# Altium footprint library boxer_mechanical.PcbLib: 32 footprints (part 1 of 2)
Each footprint in its own frame and in the unit in brackets; x right, y up, seen from the top. Pads: shape width x height; smd on the part's side, far side on the other; paste and mask are expansions set on the pad; w line width, h text height; cw(c..) or ccw(c..) is an arc to the next point about the centre after c.
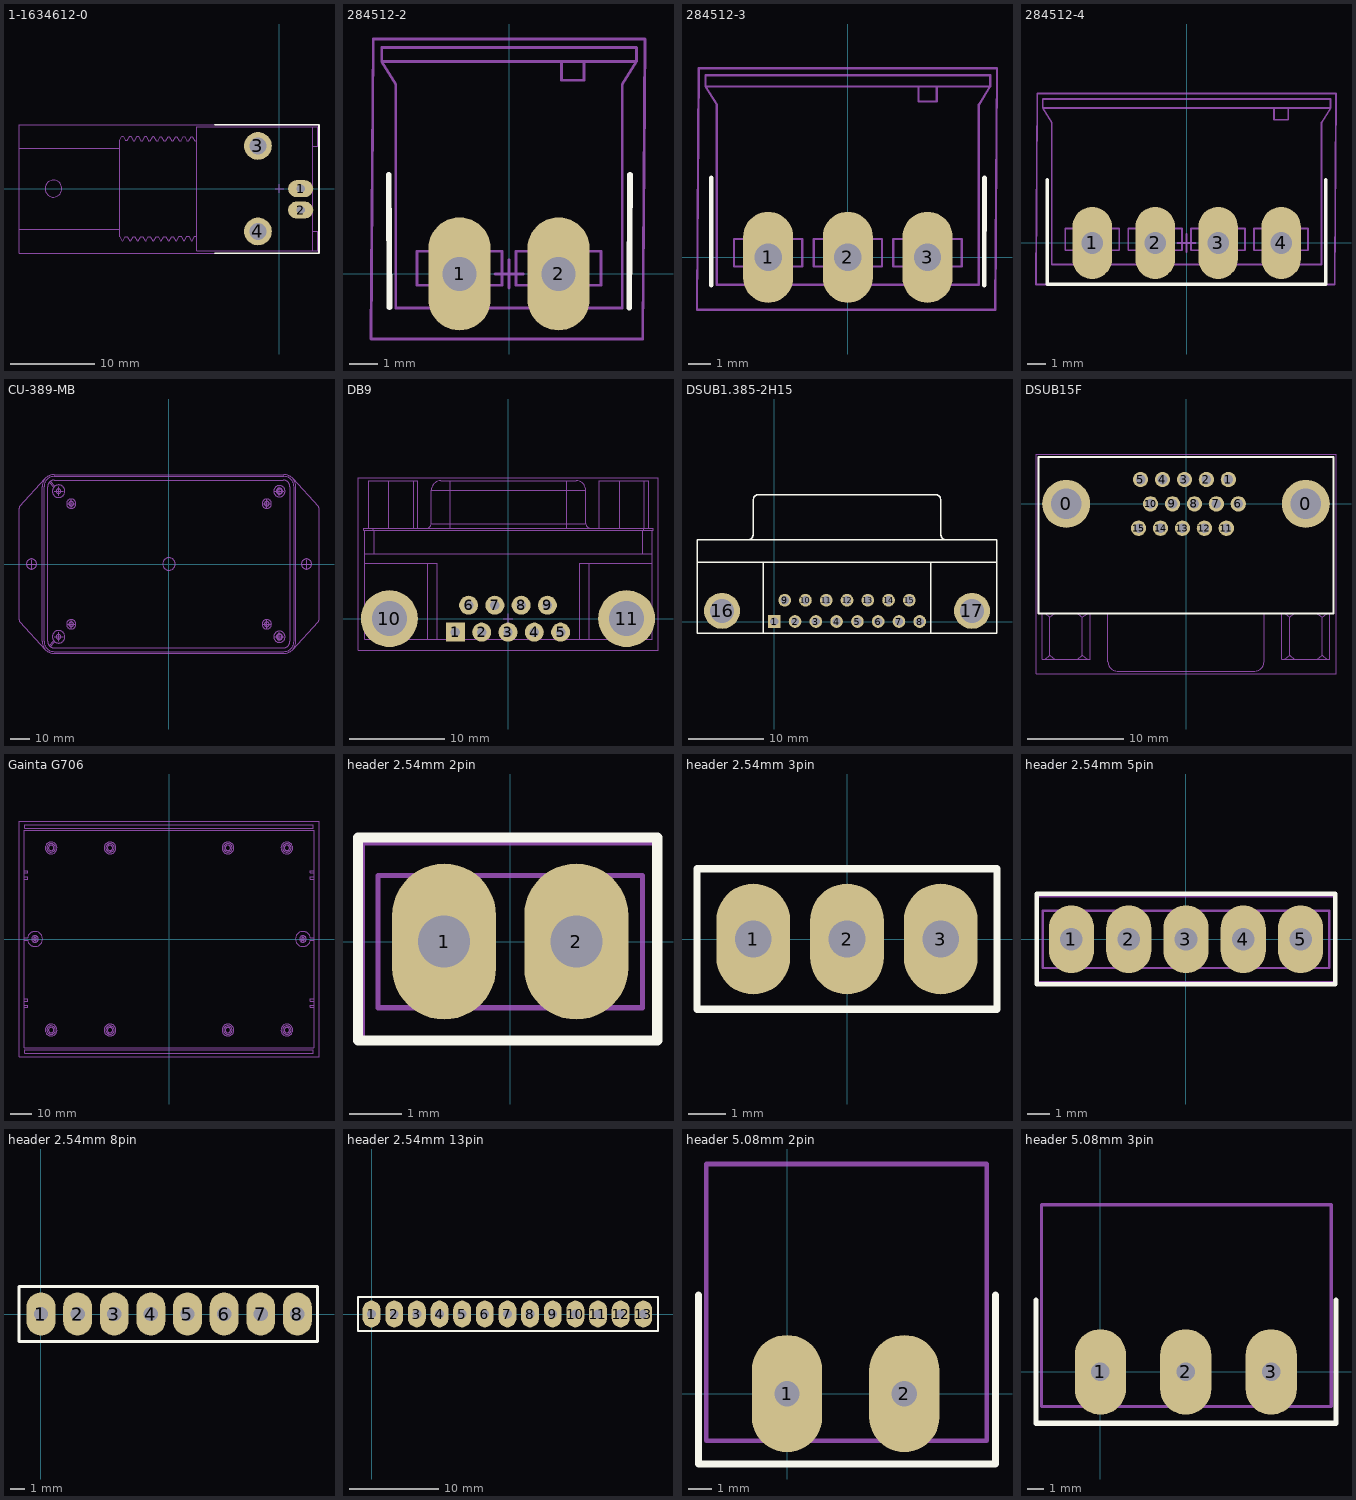
[diagram p0: the footprints below, top view; thin cyan lines are the x and y axes]

## 1-1634612-0 [mm] "Connector; BNC Elbow"
height 15.8
pads (4):
  oval 3x2 hole 1: 1(2.54,0) 2(2.54,-2.54)
  round 3.3 hole 2: 3(-2.54,5.08) 4(-2.54,-5.08)
Top Overlay:
  lines w0.2: -7.685,-7.69 4.715,-7.69 4.715,7.61 -7.685,7.61
Mechanical 13:
  circle w0.1: c-26.835,0 r1
  lines w0.1: -18.978,-4.8 -30.935,-4.8 -30.935,4.8 -18.978,4.8 ; -18.697,-6.213 -18.978,-5.727 -18.978,5.732 -18.697,6.218 ; -18.691,-6.218 -18.578,-6.218 ; -18.691,6.223 -18.578,6.223 ; -18.572,-6.213 -18.288,-5.722 -18.064,-5.722 -17.783,-6.208 ; -18.572,6.218 -18.288,5.726 -18.064,5.726 -17.783,6.212 ; -17.777,-6.213 -17.664,-6.213 ; -17.777,6.217 -17.664,6.217 ; -17.658,-6.208 -17.374,-5.716 -17.151,-5.716 -16.87,-6.202 ; -17.658,6.212 -17.374,5.721 -17.151,5.721 -16.87,6.207 ; -16.864,-6.207 -16.751,-6.207 ; -16.864,6.212 -16.751,6.212 ; -16.745,-6.202 -16.461,-5.711 -16.237,-5.711 -15.956,-6.197 ; -16.745,6.207 -16.461,5.715 -16.237,5.715 -15.956,6.201 ; -15.95,-6.202 -15.837,-6.202 ; -15.95,6.206 -15.837,6.206 ; -15.831,-6.197 -15.547,-5.705 -15.324,-5.705 -15.043,-6.191 ; -15.831,6.201 -15.547,5.71 -15.324,5.71 -15.043,6.196 ; -15.037,-6.196 -14.924,-6.196 ; -15.037,6.201 -14.924,6.201 ; -14.918,-6.191 -14.634,-5.7 -14.41,-5.7 -14.129,-6.186 ; -14.918,6.196 -14.634,5.704 -14.41,5.704 -14.129,6.19 ; -14.123,-6.191 -14.01,-6.191 ; -14.123,6.195 -14.01,6.195 ; -14.004,-6.186 -13.72,-5.694 -13.497,-5.694 -13.216,-6.18 ; -14.004,6.19 -13.72,5.699 -13.497,5.699 -13.216,6.185 ; -13.21,-6.185 -13.097,-6.185 ; -13.21,6.19 -13.097,6.19 ; -13.091,-6.18 -12.807,-5.689 -12.583,-5.689 -12.302,-6.175 ; -13.091,6.185 -12.807,5.693 -12.583,5.693 -12.302,6.179 ; -12.296,-6.18 -12.183,-6.18 ; -12.296,6.184 -12.183,6.184 ; -12.177,-6.175 -11.893,-5.683 -11.67,-5.683 -11.389,-6.169 ; -12.177,6.179 -11.893,5.688 -11.67,5.688 -11.389,6.174 ; -11.383,-6.174 -11.27,-6.174 ; -11.383,6.179 -11.27,6.179 ; -11.264,-6.169 -10.98,-5.678 -10.756,-5.678 -10.475,-6.164 ; -11.264,6.174 -10.98,5.683 -10.756,5.683 -10.475,6.168 ; -10.469,-6.169 -10.356,-6.169 ; -10.469,6.174 -10.356,6.174 ; -10.35,-6.164 -10.066,-5.672 -9.835,-5.672 ; -10.35,6.168 -10.066,5.677 -9.835,5.677 ; 3.965,-7.35 3.965,7.35 ; 3.965,-5.05 4.565,-5.05 4.565,-7.35 -9.835,-7.35 -9.835,7.35 4.565,7.35 4.565,5.05 3.965,5.05
  text ".Designator" at 0.8,7.625 h0.5
  text ".Value" at -1,-0.175 h0.5
Mechanical 15:
  lines w0.1: -0.5,0 0.5,0 ; 0,-0.5 0,0.5 ; -30.935,-7.665 -30.935,7.61 4.665,7.61 4.665,-7.665 -30.935,-7.665
3D body "c-1-1634612-0-d-3d.stp": height 15.75, standoff -4.45, extent -30.935,-7.35 4.565,7.35

## 284512-2 [mm] "Terminal Block 3.5mm 2-pin ,11A, 300V"
height 7.3
pads (2):
  oval 2.2x4 hole 1.2: 1(-1.75,0) 2(1.75,0)
Top Overlay:
  lines w0.2: -4.25,3.5 -4.225,-1.175 ; 4.25,-1.2 4.275,3.5
Mechanical 13:
  lines w0.1: -2.7,-1.2 -2.7,-0.4 -3.25,-0.4 -3.25,0.8 -0.25,0.8 -0.25,-0.4 -0.8,-0.4 -0.8,-1.2 ; 1,-1.2 1,-0.4 0.25,-0.4 0.25,0.8 3.25,0.8 3.25,-0.4 2.5,-0.4 2.5,-1.2 ; 1.85,7.5 1.85,6.844 2.65,6.844 2.65,7.5 2.644,7.5 ; -4.5,7.5 -4.5,8 4.5,8 4.5,7.5 ; -4.5,7.5 4.5,7.5 ; -4.5,7.5 -4,6.7 -4,-1.2 4,-1.2 4,6.7 4.5,7.5 ; -2.15,-0.4 -1.35,-0.4 ; -2.15,-0.4 -1.35,-0.4 ; -2.15,-0.4 -2.15,0.4 -1.35,0.4 -1.35,-0.4 ; 1.35,-0.4 1.35,0.4 2.15,0.4 2.15,-0.4 1.35,-0.4
  text ".Designator" at -4.369,8.368 h0.5
  text ".Value" at -0.85,1.275 h0.5
Mechanical 15:
  lines w0.1: -0.5,0 0.5,0 ; 0,-0.5 0,0.5 ; -4.873,-2.3 4.727,-2.3 4.8,8.3 -4.8,8.3 -4.873,-2.3
3D body "c-284512-2-e1-3d.stp": height 7.25, standoff -3.4, extent -4.5,-1.2 4.5,8

## 284512-3 [mm] "Terminal Block 3.5mm 3-pin ,11A, 300V"
height 7.3
pads (3):
  oval 2.2x4 hole 1.2: 1(-3.5,0) 2(0,0) 3(3.5,0)
Top Overlay:
  lines w0.2: -6,-1.225 -6,3.5 ; 6,-1.225 6,3.5
Mechanical 13:
  lines w0.1: -4.45,-1.2 -4.45,-0.4 -5,-0.4 -5,0.8 -2,0.8 -2,-0.4 -2.55,-0.4 -2.55,-1.2 ; -0.75,-1.2 -0.75,-0.4 -1.5,-0.4 -1.5,0.8 1.5,0.8 1.5,-0.4 0.75,-0.4 0.75,-1.2 ; 2.75,-1.2 2.75,-0.4 2,-0.4 2,0.8 5,0.8 5,-0.4 4.25,-0.4 4.25,-1.2 ; 3.1,7.5 3.1,6.844 3.9,6.844 3.9,7.5 3.894,7.5 ; -6.25,7.5 -5.75,6.7 -5.75,-1.2 5.75,-1.2 5.75,6.7 6.25,7.5 ; -6.25,7.5 6.25,7.5 ; -6.25,7.5 -6.25,8 6.25,8 6.25,7.5 ; -3.9,-0.4 -3.9,0.4 -3.1,0.4 -3.1,-0.4 ; -3.9,-0.4 -3.1,-0.4 ; -3.9,-0.4 -3.1,-0.4 ; -0.4,-0.4 0.4,-0.4 0.4,0.4 -0.4,0.4 -0.4,-0.4 ; 3.1,-0.4 3.1,0.4 3.9,0.4 3.9,-0.4 3.1,-0.4
  text ".Value" at -0.975,1.275 h0.5
  text ".Designator" at -6.244,8.343 h0.5
Mechanical 15:
  lines w0.1: -0.5,0 0.5,0 ; 0,-0.5 0,0.5 ; -6.623,-2.3 -6.55,8.3 6.55,8.3 6.477,-2.3 -6.623,-2.3
3D body "15h7375_284512-3.stp": height 7.25, standoff -3.4, extent -6.25,-1.2 6.25,8

## 284512-4 [mm] "Terminal Block 3.5mm 4-pin ,11A, 300V"
height 7.3
pads (4):
  oval 2.2x4 hole 1.2: 1(-5.25,0) 2(-1.75,0) 3(1.75,0) 4(5.25,0)
Top Overlay:
  lines w0.2: -7.75,3.5 -7.75,-2.3 7.725,-2.3 7.725,3.5
Mechanical 13:
  lines w0.1: -6.2,-1.2 -6.2,-0.4 -6.75,-0.4 -6.75,0.8 -3.75,0.8 -3.75,-0.4 -4.3,-0.4 -4.3,-1.2 ; -2.5,-1.2 -2.5,-0.4 -3.25,-0.4 -3.25,0.8 -0.25,0.8 -0.25,-0.4 -1,-0.4 -1,-1.2 ; 1,-1.2 1,-0.4 0.25,-0.4 0.25,0.8 3.25,0.8 3.25,-0.4 2.5,-0.4 2.5,-1.2 ; 4.5,-1.2 4.5,-0.4 3.75,-0.4 3.75,0.8 6.75,0.8 6.75,-0.4 6,-0.4 6,-1.2 ; 4.85,7.5 4.85,6.844 5.65,6.844 5.65,7.5 5.644,7.5 ; -8,7.5 -8,8 8,8 8,7.5 ; -8,7.5 8,7.5 ; -8,7.5 -7.5,6.7 -7.5,-1.2 7.5,-1.2 7.5,6.7 8,7.5 ; -5.65,-0.4 -4.85,-0.4 ; -5.65,-0.4 -4.85,-0.4 ; -5.65,-0.4 -5.65,0.4 -4.85,0.4 -4.85,-0.4 ; -2.15,-0.4 -2.15,0.4 -1.35,0.4 -1.35,-0.4 -2.15,-0.4 ; 1.35,-0.4 2.15,-0.4 2.15,0.4 1.35,0.4 1.35,-0.4 ; 4.85,-0.4 4.85,0.4 5.65,0.4 5.65,-0.4 4.85,-0.4
  text ".Value" at -0.95,1.525 h0.5
  text ".Designator" at -7.969,8.318 h0.5
Mechanical 15:
  lines w0.1: -0.5,0 0.5,0 ; 0,-0.5 0,0.5 ; -8.373,-2.3 8.23,-2.3 8.302,8.3 -8.3,8.3 -8.373,-2.3
3D body "12h8906_284512-4.stp": height 7.25, standoff -3.4, extent -8,-1.2 8,8

## CU-389-MB [mm]
height 40
Mechanical 2:
  circle w0.1: c49.693,-30.632 r2.388
  circle w0.1: c49.693,-30.632 r1.194
  circle w0.1: c49.693,30.632 r1.194
  circle w0.1: c49.693,30.632 r2.375
  circle w0.1: c69.861,0 r2.578
  circle w0.1: c-69.839,0 r2.578
  circle w0.1: c-56.084,-36.982 r1.194
  circle w0.1: c-56.084,36.982 r1.194
  circle w0.1: c-49.671,-30.632 r1.194
  circle w0.1: c-49.671,-30.632 r2.388
  circle w0.1: c56.107,-36.982 r1.587
  circle w0.1: c-56.084,36.982 r3.175
  circle w0.1: c-49.671,30.632 r2.388
  circle w0.1: c-49.671,30.632 r1.194
  circle w0.1: c0.011,0 r3.175
  circle w0.1: c56.107,36.982 r1.587
  circle w0.1: c56.107,36.982 r2.857
  circle w0.1: c-56.084,-36.982 r3.175
  circle w0.1: c56.107,-36.982 r2.857
  lines w0.1: -62.773,-43.437 -75.763,-29.452 cw(c-74.602,-28.37) -76.189,-28.37 -76.189,28.37 cw(c-74.602,28.37) -75.763,29.452 -62.773,43.437 ; -60.933,-41.41 -58.563,-38.967 ; -60.933,41.41 -58.563,38.967 ; -60.364,-41.963 -57.993,-39.52 ; -60.364,41.963 -57.993,39.52 ; 62.795,-43.437 75.785,-29.452 ccw(c74.623,-28.37) 76.211,-28.37 76.211,28.37 ccw(c74.623,28.37) 75.785,29.452 62.795,43.437 ; -64.403,-39.297 ccw(c-58.333,-39.297) -58.333,-45.367 58.355,-45.367 ccw(c58.355,-39.297) 64.425,-39.297 64.425,39.297 ccw(c58.355,39.297) 58.355,45.367 -58.333,45.367 ccw(c-58.333,39.297) -64.403,39.297 -64.403,-39.297 ; -63.489,-39.297 ccw(c-58.333,-39.297) -58.333,-44.453 58.355,-44.453 ccw(c58.355,-39.297) 63.511,-39.297 63.511,39.297 ccw(c58.355,39.297) 58.355,44.453 -58.333,44.453 ccw(c-58.333,39.297) -63.489,39.297 -63.489,-39.297 ; -61.66,-39.297 ccw(c-58.333,-39.297) -58.333,-42.624 58.101,-42.624 ccw(c58.101,-39.297) 61.428,-39.297 61.428,39.297 ccw(c58.101,39.297) 58.101,42.624 -58.333,42.624 ccw(c-58.333,39.297) -61.66,39.297 -61.66,-39.297
Mechanical 3:
Mechanical 8:
  lines w0.1: -72.125,0 -67.553,0 ; -69.839,-2.286 -69.839,2.286 ; -58.37,-36.982 -53.798,-36.982 ; -58.37,36.982 -53.798,36.982 ; -56.084,-39.268 -56.084,-34.696 ; -56.084,34.696 -56.084,39.268 ; -51.957,-30.632 -47.385,-30.632 ; -51.957,30.632 -47.385,30.632 ; -49.671,-32.918 -49.671,-28.346 ; -49.671,28.346 -49.671,32.918 ; 47.407,-30.632 51.979,-30.632 ; 47.407,30.632 51.979,30.632 ; 49.693,-32.918 49.693,-28.346 ; 49.693,28.346 49.693,32.918 ; 53.82,-36.982 58.392,-36.982 ; 53.82,36.982 58.392,36.982 ; 56.106,-39.268 56.106,-34.696 ; 56.106,34.696 56.106,39.268 ; 67.575,0 72.147,0 ; 69.861,-2.286 69.861,2.286
Mechanical 13:
  circle w0.1: c56.106,-36.982 r1.194
  circle w0.1: c56.106,36.982 r1.194
3D body "hb389mb.step": height 30.08, standoff -9.97, extent -76.266,-45.305 76.286,45.367

## DB9 [mm]
height 12.75
pads (11):
  rect 2x2 hole 1: 1(-5.54,-1.42)
  round 2 hole 1: 2(-2.77,-1.42) 3(0,-1.42) 4(2.77,-1.42) 5(5.54,-1.42) 6(-4.155,1.42) 7(-1.385,1.42) 8(1.385,1.42) 9(4.155,1.42)
  round 6 hole 3.7: 10(-12.495,0) 11(12.495,0)
Mechanical 13:
  lines w0.1: -15.09,5.82 -7.44,5.82 -7.44,-2.18 ; -15.09,6.82 -14.09,6.82 ; -15.09,9.32 -15.09,-2.18 15.21,-2.18 15.21,9.32 ; -14.684,9.52 -14.684,14.52 -12.543,14.52 ; -14.09,9.32 -14.09,6.82 ; -12.543,9.52 -12.543,14.52 ; -9.949,9.52 -9.949,14.52 ; -9.496,9.52 -9.496,14.52 -9.949,14.52 ; -8.59,9.52 ccw(c-8.59,10.02) -8.09,10.02 ; -8.44,-2.18 -8.44,5.82 ; -6.09,9.52 -6.09,10.02 ; 6.21,9.52 6.21,10.02 ; 7.56,-2.18 7.56,5.82 15.21,5.82 ; 8.56,-2.18 8.56,5.82 ; 8.71,9.52 cw(c8.71,10.02) 8.21,10.02 ; 9.616,9.52 9.616,14.52 11.757,14.52 ; 11.757,9.52 11.757,14.52 ; 14.21,9.32 14.21,6.82 ; 14.351,9.52 14.351,14.52 ; 14.804,9.52 14.804,14.52 14.351,14.52 ; 15.21,6.82 14.21,6.82 ; -14.19,9.32 -15.19,9.32 -15.19,9.52 -14.19,9.52 ; -14.19,9.32 14.31,9.32 ; -14.19,9.32 -14.19,9.52 ; -14.19,9.52 14.31,9.52 ; -14.09,6.82 14.21,6.82 ; -12.543,14.52 -9.949,14.52 ; -8.09,10.02 -8.09,13.52 ; -8.09,10.02 -6.09,10.02 ; -8.09,13.52 cw(c-7.09,13.52) -7.09,14.52 -6.09,14.52 ; -8.09,13.52 -6.09,13.52 ; -6.09,10.02 6.21,10.02 ; -6.09,10.02 -6.09,13.52 ; -6.09,13.52 -6.09,14.52 ; -6.09,13.52 6.21,13.52 ; -6.09,14.52 6.21,14.52 ; 6.21,10.02 8.21,10.02 ; 6.21,10.02 6.21,13.52 ; 6.21,13.52 8.21,13.52 ; 6.21,13.52 6.21,14.52 ; 6.21,14.52 7.21,14.52 cw(c7.21,13.52) 8.21,13.52 ; 8.21,10.02 8.21,13.52 ; 11.757,14.52 14.351,14.52 ; 14.31,9.32 15.31,9.32 15.31,9.52 14.31,9.52 ; 14.31,9.32 14.31,9.52
  text ".Value" at -0.95,7.75 h0.5
  text ".Designator" at -15.044,14.968 h0.5
Mechanical 15:
  lines w0.1: -0.5,0 0.5,0 ; 0,-0.5 0,0.5 ; -15.8,-3.3 15.8,-3.3 15.8,14.82 -15.8,14.82 -15.8,-3.3
3D body "User Library-DB-9F.step": height 12.45, standoff -3.95, extent -15.19,-2.18 15.31,14.52

## DSUB1.385-2H15 [mm] "Connector; D Subminiature; 15 Position; Right Angle; Pitch 1.385 mm"
height 12.75
pads (17):
  rect 1.69x1.69 hole 1.09: 1(0,0)
  round 1.69 hole 1.09: 2(2.77,0) 3(5.54,0) 4(8.31,0) 5(11.08,0) 6(13.85,0) 7(16.62,0) 8(19.39,0) 9(1.385,2.84) 10(4.155,2.84) 11(6.925,2.84) 12(9.695,2.84) 13(12.465,2.84) 14(15.235,2.84) 15(18.005,2.84)
  round 4.8 hole 3.18: 16(-6.965,1.42) 17(26.355,1.42)
Top Overlay:
  lines w0.2: -10.305,7.92 29.695,7.92 ; -3.5,10.925 ccw(c-3.5,11.62) -2.805,11.62 -2.805,16.22 ; -2.8,16.225 cw(c-2.105,16.225) -2.105,16.92 21.495,16.92 cw(c21.495,16.225) 22.19,16.225 ; -1.445,-1.58 -1.445,7.92 ; 20.835,-1.58 20.835,7.92 ; 22.195,16.22 22.195,11.62 ccw(c22.89,11.62) 22.89,10.925 ; -10.305,-1.58 -10.305,10.92 29.695,10.92 29.695,-1.58 -10.305,-1.58
3D body: height 9, standoff 8, extent 14.224,15.002 15.222,17.002
3D body: height 9, standoff 8, extent 16.256,15.002 17.254,17.002
3D body: height 7, standoff 6, extent 15.24,15.002 16.238,17.002
3D body: height 9, standoff 8, extent 10.16,15.002 11.158,17.002
3D body: height 9, standoff 8, extent 12.192,15.002 13.19,17.002
3D body: height 7, standoff 6, extent 11.176,15.002 12.174,17.002
3D body: height 7, standoff 6, extent 13.208,15.002 14.206,17.002
3D body: height 9, standoff 8, extent 6.096,15.002 7.094,17.002
3D body: height 9, standoff 8, extent 8.128,15.002 9.126,17.002
3D body: height 7, standoff 6, extent 7.112,15.002 8.11,17.002
3D body: height 7, standoff 6, extent 9.144,15.002 10.142,17.002
3D body: height 7, standoff 6, extent 5.08,15.002 6.078,17.002
3D body: height 7, standoff 6, extent 3.048,15.002 4.046,17.002
3D body: height 9, standoff 8, extent 4.064,15.002 5.062,17.002
3D body: height 9, standoff 8, extent 2.032,15.002 3.03,17.002
3D body: height 10, standoff 5, extent -2.667,7.049 21.971,16.383
3D body: height 15, standoff 0, extent -10.16,-1.524 29.591,10.795

## DSUB15F [mm]
height 12.5
pads (17):
  round 5 hole 3.2: 0(-12.5,0) 0(12.5,0)
  round 1.6 hole 1: 1(4.42,2.54) 2(2.13,2.54) 3(-0.16,2.54) 4(-2.45,2.54) 5(-4.74,2.54) 6(5.46,0) 7(3.17,0) 8(0.88,0) 9(-1.41,0) 10(-3.7,0) 11(4.21,-2.54) 12(1.92,-2.54) 13(-0.37,-2.54) 14(-2.66,-2.54) 15(-4.95,-2.54)
Top Overlay:
  lines w0.2: -15.4,-11.43 -15.4,4.9 15.4,4.9 15.4,-11.43 -15.4,-11.43
Mechanical 13:
  lines w0.1: -15,-11.43 -15,-16.23 -10,-16.23 -10,-11.43 ; -14.7,-16.2 -14.2,-15.8 ; -14.7,-11.43 -14.2,-11.83 ; -13.7,-16.2 -14.2,-15.8 ; -13.7,-11.43 -14.2,-11.83 ; -11.3,-16.22 -10.8,-15.82 ; -11.3,-11.45 -10.8,-11.85 ; -10.3,-16.22 -10.8,-15.82 ; -10.3,-11.45 -10.8,-11.85 ; -8.15,-11.45 -8.15,-16.45 ccw(c-7.15,-16.45) -7.15,-17.45 7.15,-17.45 ccw(c7.15,-16.45) 8.15,-16.45 8.15,-11.45 ; 10,-11.43 10,-16.23 15,-16.23 15,-11.43 ; 10.3,-16.2 10.8,-15.8 ; 10.3,-11.43 10.8,-11.83 ; 11.3,-16.2 10.8,-15.8 ; 11.3,-11.43 10.8,-11.83 ; 13.7,-16.22 14.2,-15.82 ; 13.7,-11.45 14.2,-11.85 ; 14.7,-16.22 14.2,-15.82 ; 14.7,-11.45 14.2,-11.85 ; -14.2,-15.8 -14.2,-11.83 ; -10.8,-15.82 -10.8,-11.85 ; 10.8,-15.8 10.8,-11.83 ; 14.2,-15.82 14.2,-11.85 ; -15.4,-11.43 -15.4,4.9 15.4,4.9 15.4,-11.43 -15.4,-11.43
Mechanical 15:
  lines w0.05: -15.65,-17.7 15.65,-17.7 15.65,5.15 -15.65,5.15 -15.65,-17.7
3D body "618015325223 (rev1).stp": height 12.5, standoff -4.01, extent -15.4,-17.4 15.4,4.9

## Gainta G706 [mm]
height 35
Mechanical 2:
  circle w0.1: c-62.5,0 r0.62
  circle w0.1: c-62.5,0 r1.545
  circle w0.1: c62.5,0 r1.545
  circle w0.1: c62.5,0 r0.62
  circle w0.1: c-27.5,-42.5 r2.75
  circle w0.1: c-27.5,42.5 r2.75
  circle w0.1: c55,-42.5 r2.75
  circle w0.1: c55,-42.5 r1.25
  circle w0.1: c55,-42.5 r1.95
  circle w0.1: c55,42.5 r2.75
  circle w0.1: c55,42.5 r1.95
  circle w0.1: c55,42.5 r1.25
  circle w0.1: c27.5,-42.5 r2.75
  circle w0.1: c27.5,-42.5 r1.25
  circle w0.1: c27.5,-42.5 r1.95
  circle w0.1: c-27.5,-42.5 r1.25
  circle w0.1: c-27.5,-42.5 r1.95
  circle w0.1: c-55,-42.5 r2.75
  circle w0.1: c-55,-42.5 r1.25
  circle w0.1: c-55,-42.5 r1.95
  circle w0.1: c27.5,42.5 r2.75
  circle w0.1: c27.5,42.5 r1.95
  circle w0.1: c27.5,42.5 r1.25
  circle w0.1: c-27.5,42.5 r1.95
  circle w0.1: c-27.5,42.5 r1.25
  circle w0.1: c-55,42.5 r2.75
  circle w0.1: c-55,42.5 r1.95
  circle w0.1: c-55,42.5 r1.25
  lines w0.1: -67.5,31.85 -66,31.85 ; -67.499,-29 -66,-29 ; -67.499,-27.95 -66,-27.95 ; -67.499,-0.5 -65.964,-0.5 ccw(c-62.5,0) -65.964,0.5 -67.499,0.5 ; -67.499,27.95 -66,27.95 ; -67.499,29 -66,29 ; -67.475,-30.8 -66,-30.8 ; -67.474,-31.85 -66,-31.85 ; -67.474,30.8 -66,30.8 ; -64.042,-0.092 -63.057,-0.274 ; -63.908,0.636 -62.923,0.454 ; -63.136,-1.408 -62.954,-0.423 ; -62.774,0.557 -62.592,1.542 ; -62.408,-1.542 -62.226,-0.557 ; -62.077,-0.454 -61.092,-0.636 ; -62.046,0.423 -61.864,1.408 ; -61.943,0.274 -60.958,0.092 ; 60.958,-0.092 61.943,-0.274 ; 61.092,0.636 62.077,0.454 ; 61.864,-1.408 62.046,-0.423 ; 62.226,0.557 62.408,1.542 ; 62.592,-1.542 62.774,-0.557 ; 62.923,-0.454 63.908,-0.636 ; 62.954,0.423 63.136,1.408 ; 63.057,0.274 64.042,0.092 ; 67.499,-31.85 66,-31.85 66,-30.8 67.499,-30.8 ; 67.499,-29 66,-29 66,-27.95 67.499,-27.95 ; 67.499,0.5 65.964,0.5 ccw(c62.5,0) 65.964,-0.5 67.5,-0.5 ; 67.499,27.95 66,27.95 66,29 67.499,29 ; 67.499,30.8 66,30.8 66,31.85 67.499,31.85 ; -66,-31.85 -66,-30.8 ; -66,-31.85 -66,-30.8 ; -66,-29 -66,-27.95 ; -66,-29 -66,-27.95 ; -66,27.95 -66,29 ; -66,27.95 -66,29 ; -66,30.8 -66,31.85 ; -66,30.8 -66,31.85 ; -69.982,-55 69.982,-55 69.982,55 -69.982,55 -69.982,-55 ; -67.499,-50.7 67.499,-50.7 67.499,50.7 -67.499,50.7 -67.499,-50.7 ; -67.25,-53.4 67.25,-53.4 67.25,-51.7 -67.25,-51.7 -67.25,-53.4 ; -67.25,51.7 67.25,51.7 67.25,53.4 -67.25,53.4 -67.25,51.7
3D body "__@_CA G706 Gainta.STEP": height 26.3, standoff -8.1, extent -69.982,-55 69.982,55

## header 2.54mm 2pin [mm]
pads (2):
  oval 2x3 hole 1: 1(-1.27,0) 2(1.27,0)
Top Overlay:
  lines w0.2: -2.925,-1.9 2.825,-1.9 2.825,2 -2.925,2 -2.925,-1.9
Mechanical 13:
  lines w0.1: -2.54,-1.27 2.54,-1.27 2.54,1.27 -2.54,1.27 -2.54,-1.27
  text ".Value" at -2.425,-2 h0.5
  text ".Designator" at -2.569,1.668 h0.5
Mechanical 15:
  lines w0.1: -2.84,-1.9 2.84,-1.9 2.84,1.9 -2.84,1.9 -2.84,-1.9
3D body "65777.stp": height 8.57, standoff -2.97, extent -2.54,-1.27 2.54,1.27

## header 2.54mm 3pin [mm]
pads (3):
  oval 2x3 hole 1: 1(-2.54,0) 2(0,0) 3(2.54,0)
Top Overlay:
  lines w0.2: -4.064,-1.905 4.064,-1.905 4.064,1.905 -4.064,1.905 -4.064,-1.905
3D body: height 3, standoff 0, extent -0.381,-1.143 3.175,1.143
3D body: height 3, standoff 0, extent 1.397,-1.778 3.683,1.778
3D body: height 3, standoff 0, extent -1.143,-1.778 1.143,1.778
3D body: height 10, standoff 0, extent 2.044,-0.499 3.04,0.499
3D body: height 10, standoff 0, extent -0.496,-0.499 0.5,0.499
3D body: height 10, standoff 0, extent -3.036,-0.499 -2.04,0.499
3D body: height 10, standoff 0, extent -0.496,-0.499 0.5,0.499
3D body: height 3, standoff 0, extent -3.683,-1.778 -1.397,1.778
3D body: height 3, standoff 0, extent -2.921,-1.143 0.635,1.143

## header 2.54mm 5pin [mm] "Connector; Header; 5 Position"
pads (5):
  oval 2x3 hole 1: 1(-5.08,0) 2(-2.54,0) 3(0,0) 4(2.54,0) 5(5.08,0)
Top Overlay:
  lines w0.2: -6.625,-2 -6.625,2.025 6.625,2.025 6.625,-2 -6.625,-2
Mechanical 13:
  lines w0.1: -6.35,-1.27 6.35,-1.27 6.35,1.27 -6.35,1.27 -6.35,-1.27
  text ".Designator" at -6.394,1.643 h0.5
  text ".Value" at -1.025,-0.225 h0.5
Mechanical 15:
  lines w0.1: -6.65,-1.9 -6.65,1.9 6.65,1.9 6.65,-1.9 -6.65,-1.9
3D body "65785.stp": height 8.57, standoff -2.97, extent -6.35,-1.27 6.35,1.27

## header 2.54mm 8pin [mm]
pads (8):
  oval 2x3 hole 1: 1(0,0) 2(2.54,0) 3(5.08,0) 4(7.62,0) 5(10.16,0) 6(12.7,0) 7(15.24,0) 8(17.78,0)
Top Overlay:
  lines w0.2: -1.524,-1.905 19.177,-1.905 19.177,1.905 -1.524,1.905 -1.524,-1.905
3D body: height 3, standoff 0, extent 6.985,-1.143 10.541,1.143
3D body: height 3, standoff 0, extent 4.699,-1.143 8.255,1.143
3D body: height 3, standoff 0, extent 1.905,-1.143 5.461,1.143
3D body: height 3, standoff 0, extent -0.381,-1.143 3.175,1.143
3D body: height 3, standoff 0, extent 9.017,-1.778 11.303,1.778
3D body: height 3, standoff 0, extent 6.477,-1.778 8.763,1.778
3D body: height 3, standoff 0, extent 3.937,-1.778 6.223,1.778
3D body: height 3, standoff 0, extent 1.397,-1.778 3.683,1.778
3D body: height 3, standoff 0, extent -1.143,-1.778 1.143,1.778
3D body: height 10, standoff 0, extent 9.664,-0.499 10.66,0.499
3D body: height 10, standoff 0, extent 7.124,-0.499 8.12,0.499
3D body: height 10, standoff 0, extent 4.584,-0.499 5.58,0.499
3D body: height 10, standoff 0, extent 2.044,-0.499 3.04,0.499
3D body: height 10, standoff 0, extent -0.496,-0.499 0.5,0.499
3D body: height 3, standoff 0, extent 14.605,-1.143 18.161,1.143
3D body: height 3, standoff 0, extent 12.319,-1.143 15.875,1.143
3D body: height 3, standoff 0, extent 16.637,-1.778 18.923,1.778
3D body: height 3, standoff 0, extent 14.097,-1.778 16.383,1.778
3D body: height 3, standoff 0, extent 11.557,-1.778 13.843,1.778
3D body: height 10, standoff 0, extent 17.284,-0.499 18.28,0.499
3D body: height 10, standoff 0, extent 14.744,-0.499 15.74,0.499
3D body: height 10, standoff 0, extent 12.204,-0.499 13.2,0.499
3D body: height 3, standoff 0, extent 9.525,-1.143 13.081,1.143

## header 2.54mm 13pin [mm]
pads (13):
  oval 2x3 hole 1: 1(0,0) 2(2.54,0) 3(5.08,0) 4(7.62,0) 5(10.16,0) 6(12.7,0) 7(15.24,0) 8(17.78,0) 9(20.32,0) 10(22.86,0) 11(25.4,0) 12(27.94,0) 13(30.48,0)
Top Overlay:
  lines w0.2: -1.524,-1.905 32.131,-1.905 32.131,1.905 -1.524,1.905 -1.524,-1.905
3D body: height 3, standoff 0, extent 6.985,-1.143 10.541,1.143
3D body: height 3, standoff 0, extent 4.699,-1.143 8.255,1.143
3D body: height 3, standoff 0, extent 1.905,-1.143 5.461,1.143
3D body: height 3, standoff 0, extent -0.381,-1.143 3.175,1.143
3D body: height 3, standoff 0, extent 9.017,-1.778 11.303,1.778
3D body: height 3, standoff 0, extent 6.477,-1.778 8.763,1.778
3D body: height 3, standoff 0, extent 3.937,-1.778 6.223,1.778
3D body: height 3, standoff 0, extent 1.397,-1.778 3.683,1.778
3D body: height 3, standoff 0, extent -1.143,-1.778 1.143,1.778
3D body: height 10, standoff 0, extent 9.664,-0.499 10.66,0.499
3D body: height 10, standoff 0, extent 7.124,-0.499 8.12,0.499
3D body: height 10, standoff 0, extent 4.584,-0.499 5.58,0.499
3D body: height 10, standoff 0, extent 2.044,-0.499 3.04,0.499
3D body: height 10, standoff 0, extent -0.496,-0.499 0.5,0.499
3D body: height 3, standoff 0, extent 19.685,-1.143 23.241,1.143
3D body: height 3, standoff 0, extent 17.399,-1.143 20.955,1.143
3D body: height 3, standoff 0, extent 14.605,-1.143 18.161,1.143
3D body: height 3, standoff 0, extent 12.319,-1.143 15.875,1.143
3D body: height 3, standoff 0, extent 21.717,-1.778 24.003,1.778
3D body: height 3, standoff 0, extent 19.177,-1.778 21.463,1.778
3D body: height 3, standoff 0, extent 16.637,-1.778 18.923,1.778
3D body: height 3, standoff 0, extent 14.097,-1.778 16.383,1.778
3D body: height 3, standoff 0, extent 11.557,-1.778 13.843,1.778
3D body: height 10, standoff 0, extent 22.364,-0.499 23.36,0.499
3D body: height 10, standoff 0, extent 19.824,-0.499 20.82,0.499
3D body: height 10, standoff 0, extent 17.284,-0.499 18.28,0.499
3D body: height 10, standoff 0, extent 14.744,-0.499 15.74,0.499
3D body: height 10, standoff 0, extent 12.204,-0.499 13.2,0.499
3D body: height 3, standoff 0, extent 9.525,-1.143 13.081,1.143
3D body: height 3, standoff 0, extent 24.257,-1.778 26.543,1.778
3D body: height 3, standoff 0, extent 26.797,-1.778 29.083,1.778
3D body: height 3, standoff 0, extent 29.337,-1.778 31.623,1.778
3D body: height 3, standoff 0, extent 22.225,-1.143 25.781,1.143
3D body: height 3, standoff 0, extent 25.019,-1.143 28.575,1.143
3D body: height 3, standoff 0, extent 27.305,-1.143 30.861,1.143
3D body: height 10, standoff 0, extent 24.904,-0.499 25.9,0.499
3D body: height 10, standoff 0, extent 27.444,-0.499 28.44,0.499
3D body: height 10, standoff 0, extent 29.984,-0.499 30.98,0.499

## header 5.08mm 2pin [mm]
height 7.8
pads (2):
  oval 3.048x5.08 hole 1.1: 1(0,0) 2(5.08,0)
Top Overlay:
  lines w0.3: -3.833,4.275 -3.833,-3.05 9.03,-3.05 9.03,4.275
Mechanical 13:
  lines w0.2: -3.503,-2.05 8.657,-2.05 8.657,9.95 -3.503,9.95 -3.503,-2.05
3D body "User Library-TB5_08-2R.step": height 8.55, standoff -4.1, extent -3.503,-2.05 8.657,9.95

## header 5.08mm 3pin [mm]
height 7.8
pads (3):
  oval 3.048x5.08 hole 1.1: 1(0,0) 2(5.08,0) 3(10.16,0)
Top Overlay:
  lines w0.254: -1.4,0 0,0 ; 10.16,0 11.56,0
  lines w0.3: -3.833,4.275 -3.833,-3.05 14.017,-3.05 14.017,4.275
Mechanical 13:
  lines w0.2: -3.503,-2.05 13.737,-2.05 13.737,9.95 -3.503,9.95 -3.503,-2.05
3D body "User Library-TB5_08-3R.step": height 8.55, standoff -4.1, extent -3.503,-2.05 13.737,9.95